# Altium footprint library Tranzistor.PcbLib: 240 footprints (part 7 of 15)
Each footprint in its own frame and in the unit in brackets; x right, y up, seen from the top. Pads: shape width x height; smd on the part's side, far side on the other; paste and mask are expansions set on the pad; w line width, h text height; cw(c..) or ccw(c..) is an arc to the next point about the centre after c.
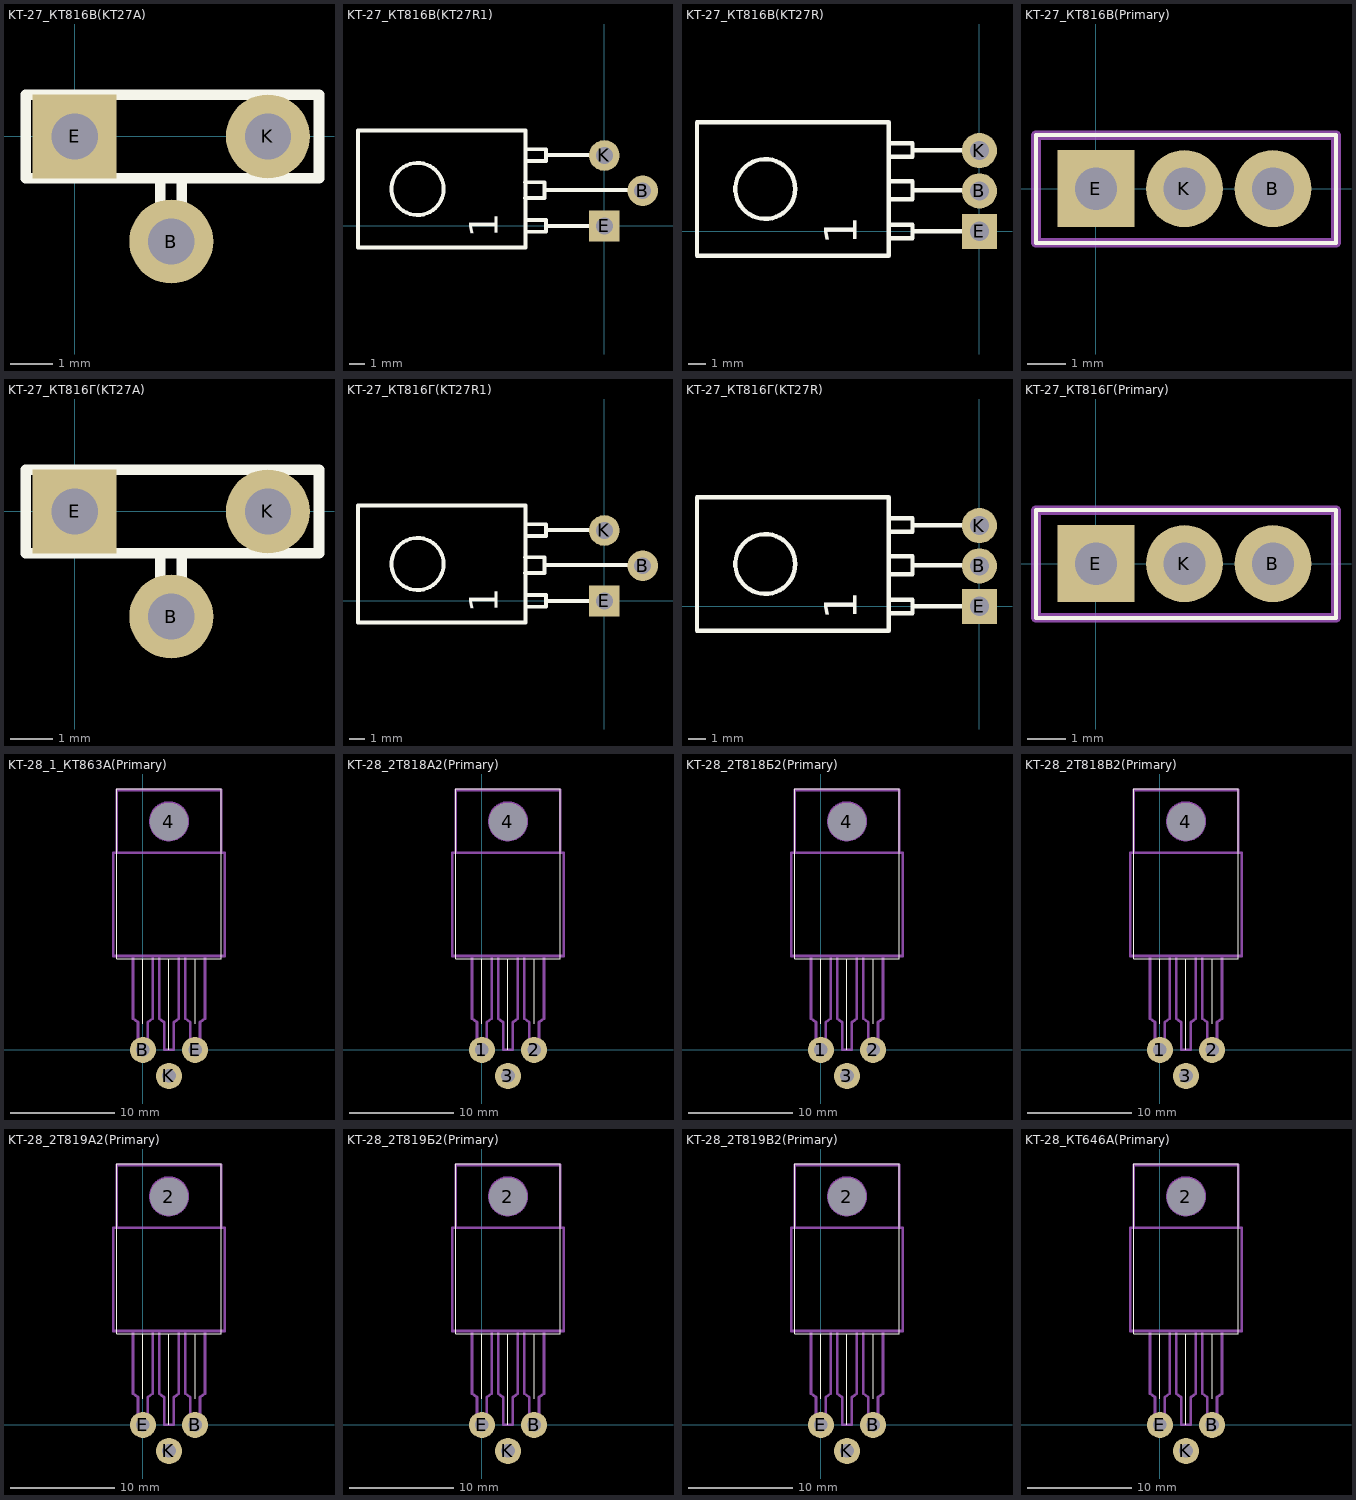
[diagram p6: the footprints below, top view; thin cyan lines are the x and y axes]

## KT-27_КТ816В(KT27A) [mm]
pads (3):
  round 2 hole 1.1: B(2.3,-2.5) K(4.6,0)
  rect 2x2 hole 1.1: E(0,0)
Top Overlay:
  lines w0.25: 2.043,-1.011 2.043,-2.56 2.551,-2.56 2.551,-1.011 ; -1.168,-0.991 5.817,-0.991 5.817,0.991 -1.168,0.991 -1.168,-0.991
  text "1" at -1.325,-1.053 h0.4

## KT-27_КТ816В(KT27R1) [mm]
pads (3):
  round 2 hole 1.1: B(2.5,2.3) K(0,4.6)
  rect 2x2 hole 1.1: E(0,0)
Top Overlay:
  circle w0.25: c-12.192,2.413 r1.702
  lines w0.25: -5.18,1.832 -3.91,1.832 -3.91,2.848 -5.18,2.848 ; -5.156,-0.381 -3.81,-0.381 -3.81,0.381 -5.156,0.381 ; -5.156,4.245 -3.81,4.245 -3.81,5.007 -5.156,5.007 ; -3.91,2.34 2.44,2.34 ; -3.81,0 -2.54,0 0,0 ; -3.81,4.626 -2.54,4.626 0,4.626 ; -16.078,-1.397 -5.156,-1.397 -5.156,6.223 -16.078,6.223 -16.078,-1.397
  text "1" at -6.35,-0.762 h3.17

## KT-27_КТ816В(KT27R) [mm]
pads (3):
  round 2 hole 1.1: B(0,2.3) K(0,4.6)
  rect 2x2 hole 1.1: E(0,0)
Top Overlay:
  circle w0.25: c-12.192,2.413 r1.702
  lines w0.25: -5.156,-0.381 -3.81,-0.381 -3.81,0.381 -5.156,0.381 ; -5.156,4.245 -3.81,4.245 -3.81,5.007 -5.156,5.007 ; -5.08,1.832 -3.81,1.832 -3.81,2.848 -5.08,2.848 ; -3.81,0 -2.54,0 0,0 ; -3.81,2.34 0,2.34 ; -3.81,4.626 -2.54,4.626 0,4.626 ; -16.078,-1.397 -5.156,-1.397 -5.156,6.223 -16.078,6.223 -16.078,-1.397
  text "1" at -6.35,-0.762 h3.17

## KT-27_КТ816В(Primary) [mm]
pads (3):
  round 2 hole 1.1: B(4.6,0) K(2.3,0)
  rect 2x2 hole 1.1: E(0,0)
Top Overlay:
  lines w0.1: -1.56,-1.41 6.24,-1.41 6.24,1.39 -1.56,1.39 -1.56,-1.41
Mechanical 1:
  lines w0.25: -1.56,-1.41 6.24,-1.41 6.24,1.39 -1.56,1.39 -1.56,-1.41

## KT-27_КТ816Г(KT27A) [mm]
pads (3):
  round 2 hole 1.1: B(2.3,-2.5) K(4.6,0)
  rect 2x2 hole 1.1: E(0,0)
Top Overlay:
  lines w0.25: 2.043,-1.011 2.043,-2.56 2.551,-2.56 2.551,-1.011 ; -1.168,-0.991 5.817,-0.991 5.817,0.991 -1.168,0.991 -1.168,-0.991
  text "1" at -1.325,-1.053 h0.4

## KT-27_КТ816Г(KT27R1) [mm]
pads (3):
  round 2 hole 1.1: B(2.5,2.3) K(0,4.6)
  rect 2x2 hole 1.1: E(0,0)
Top Overlay:
  circle w0.25: c-12.192,2.413 r1.702
  lines w0.25: -5.18,1.832 -3.91,1.832 -3.91,2.848 -5.18,2.848 ; -5.156,-0.381 -3.81,-0.381 -3.81,0.381 -5.156,0.381 ; -5.156,4.245 -3.81,4.245 -3.81,5.007 -5.156,5.007 ; -3.91,2.34 2.44,2.34 ; -3.81,0 -2.54,0 0,0 ; -3.81,4.626 -2.54,4.626 0,4.626 ; -16.078,-1.397 -5.156,-1.397 -5.156,6.223 -16.078,6.223 -16.078,-1.397
  text "1" at -6.35,-0.762 h3.17

## KT-27_КТ816Г(KT27R) [mm]
pads (3):
  round 2 hole 1.1: B(0,2.3) K(0,4.6)
  rect 2x2 hole 1.1: E(0,0)
Top Overlay:
  circle w0.25: c-12.192,2.413 r1.702
  lines w0.25: -5.156,-0.381 -3.81,-0.381 -3.81,0.381 -5.156,0.381 ; -5.156,4.245 -3.81,4.245 -3.81,5.007 -5.156,5.007 ; -5.08,1.832 -3.81,1.832 -3.81,2.848 -5.08,2.848 ; -3.81,0 -2.54,0 0,0 ; -3.81,2.34 0,2.34 ; -3.81,4.626 -2.54,4.626 0,4.626 ; -16.078,-1.397 -5.156,-1.397 -5.156,6.223 -16.078,6.223 -16.078,-1.397
  text "1" at -6.35,-0.762 h3.17

## KT-27_КТ816Г(Primary) [mm]
pads (3):
  round 2 hole 1.1: B(4.6,0) K(2.3,0)
  rect 2x2 hole 1.1: E(0,0)
Top Overlay:
  lines w0.1: -1.56,-1.41 6.24,-1.41 6.24,1.39 -1.56,1.39 -1.56,-1.41
Mechanical 1:
  lines w0.25: -1.56,-1.41 6.24,-1.41 6.24,1.39 -1.56,1.39 -1.56,-1.41

## KT-28_1_КТ863А(Primary) [mm]
pads (4):
  round 3.6 hole 3.6 unplated: 4(2.5,21.875)
  round 2.5 hole 1.3: B(0,0) E(5,0) K(2.5,-2.5)
Top Overlay:
  lines w0.1: 0,2.5 0,8.75 ; 2.5,0 2.5,8.75 ; 5,2.5 5,8.75 ; -2.5,8.75 7.5,8.75 7.5,25 -2.5,25 -2.5,8.75
Mechanical 1:
  circle w0.25: c2.5,21.9 r1.8
  lines w0.25: -0.95,9 -0.95,3 -0.47,2.651 -0.47,0 0,0 0.47,0 0.47,2.651 0.95,3 0.95,9 ; 1.55,9 1.55,3 2.03,2.651 2.03,0 2.5,0 2.97,0 2.97,2.651 3.45,3 3.45,9 ; 4.05,9 4.05,3 4.53,2.651 4.53,0 5,0 5.47,0 5.47,2.651 5.95,3 5.95,9 ; -2.5,18.9 7.5,18.9 ; -2.5,18.9 -2.5,24.9 2.5,24.9 7.5,24.9 7.5,18.9 ; -2.5,18.9 -2.85,18.9 -2.85,9 2.5,9 7.85,9 7.85,18.9 7.5,18.9
  text "К" at 2.25,9.25 h1.5
  text "Э" at 4.75,9.25 h1.5
  text "Б" at -0.5,9.25 h1.5

## KT-28_2Т818А2(Primary) [mm]
pads (4):
  round 2.5 hole 1.3: 1(0,0) 2(5,0) 3(2.5,-2.5)
  round 3.6 hole 3.6 unplated: 4(2.5,21.875)
Top Overlay:
  lines w0.1: 0,2.5 0,8.75 ; 2.5,0 2.5,8.75 ; 5,2.5 5,8.75 ; -2.5,8.75 7.5,8.75 7.5,25 -2.5,25 -2.5,8.75
Mechanical 1:
  circle w0.25: c2.5,21.9 r1.8
  lines w0.25: -0.95,9 -0.95,3 -0.47,2.651 -0.47,0 0,0 0.47,0 0.47,2.651 0.95,3 0.95,9 ; 1.55,9 1.55,3 2.03,2.651 2.03,0 2.5,0 2.97,0 2.97,2.651 3.45,3 3.45,9 ; 4.05,9 4.05,3 4.53,2.651 4.53,0 5,0 5.47,0 5.47,2.651 5.95,3 5.95,9 ; -2.5,18.9 7.5,18.9 ; -2.5,18.9 -2.5,24.9 2.5,24.9 7.5,24.9 7.5,18.9 ; -2.5,18.9 -2.85,18.9 -2.85,9 2.5,9 7.85,9 7.85,18.9 7.5,18.9
  text "К" at 2.25,9.25 h1.5
  text "Б" at 4.75,9.25 h1.5
  text "Э" at -0.5,9.25 h1.5

## KT-28_2Т818Б2(Primary) [mm]
pads (4):
  round 2.5 hole 1.3: 1(0,0) 2(5,0) 3(2.5,-2.5)
  round 3.6 hole 3.6 unplated: 4(2.5,21.875)
Top Overlay:
  lines w0.1: 0,2.5 0,8.75 ; 2.5,0 2.5,8.75 ; 5,2.5 5,8.75 ; -2.5,8.75 7.5,8.75 7.5,25 -2.5,25 -2.5,8.75
Mechanical 1:
  circle w0.25: c2.5,21.9 r1.8
  lines w0.25: -0.95,9 -0.95,3 -0.47,2.651 -0.47,0 0,0 0.47,0 0.47,2.651 0.95,3 0.95,9 ; 1.55,9 1.55,3 2.03,2.651 2.03,0 2.5,0 2.97,0 2.97,2.651 3.45,3 3.45,9 ; 4.05,9 4.05,3 4.53,2.651 4.53,0 5,0 5.47,0 5.47,2.651 5.95,3 5.95,9 ; -2.5,18.9 7.5,18.9 ; -2.5,18.9 -2.5,24.9 2.5,24.9 7.5,24.9 7.5,18.9 ; -2.5,18.9 -2.85,18.9 -2.85,9 2.5,9 7.85,9 7.85,18.9 7.5,18.9
  text "К" at 2.25,9.25 h1.5
  text "Б" at 4.75,9.25 h1.5
  text "Э" at -0.5,9.25 h1.5

## KT-28_2Т818В2(Primary) [mm]
pads (4):
  round 2.5 hole 1.3: 1(0,0) 2(5,0) 3(2.5,-2.5)
  round 3.6 hole 3.6 unplated: 4(2.5,21.875)
Top Overlay:
  lines w0.1: 0,2.5 0,8.75 ; 2.5,0 2.5,8.75 ; 5,2.5 5,8.75 ; -2.5,8.75 7.5,8.75 7.5,25 -2.5,25 -2.5,8.75
Mechanical 1:
  circle w0.25: c2.5,21.9 r1.8
  lines w0.25: -0.95,9 -0.95,3 -0.47,2.651 -0.47,0 0,0 0.47,0 0.47,2.651 0.95,3 0.95,9 ; 1.55,9 1.55,3 2.03,2.651 2.03,0 2.5,0 2.97,0 2.97,2.651 3.45,3 3.45,9 ; 4.05,9 4.05,3 4.53,2.651 4.53,0 5,0 5.47,0 5.47,2.651 5.95,3 5.95,9 ; -2.5,18.9 7.5,18.9 ; -2.5,18.9 -2.5,24.9 2.5,24.9 7.5,24.9 7.5,18.9 ; -2.5,18.9 -2.85,18.9 -2.85,9 2.5,9 7.85,9 7.85,18.9 7.5,18.9
  text "К" at 2.25,9.25 h1.5
  text "Б" at 4.75,9.25 h1.5
  text "Э" at -0.5,9.25 h1.5

## KT-28_2Т819А2(Primary) [mm]
pads (4):
  round 3.6 hole 3.6 unplated: 2(2.5,21.875)
  round 2.5 hole 1.3: B(5,0) E(0,0) K(2.5,-2.5)
Top Overlay:
  lines w0.1: 0,2.5 0,8.75 ; 2.5,0 2.5,8.75 ; 5,2.5 5,8.75 ; -2.5,8.75 7.5,8.75 7.5,25 -2.5,25 -2.5,8.75
Mechanical 1:
  circle w0.25: c2.5,21.9 r1.8
  lines w0.25: -0.95,9 -0.95,3 -0.47,2.651 -0.47,0 0,0 0.47,0 0.47,2.651 0.95,3 0.95,9 ; 1.55,9 1.55,3 2.03,2.651 2.03,0 2.5,0 2.97,0 2.97,2.651 3.45,3 3.45,9 ; 4.05,9 4.05,3 4.53,2.651 4.53,0 5,0 5.47,0 5.47,2.651 5.95,3 5.95,9 ; -2.5,18.9 7.5,18.9 ; -2.5,18.9 -2.5,24.9 2.5,24.9 7.5,24.9 7.5,18.9 ; -2.5,18.9 -2.85,18.9 -2.85,9 2.5,9 7.85,9 7.85,18.9 7.5,18.9
  text "К" at 2.25,9.25 h1.5
  text "Б" at 4.75,9.25 h1.5
  text "Э" at -0.5,9.25 h1.5

## KT-28_2Т819Б2(Primary) [mm]
pads (4):
  round 3.6 hole 3.6 unplated: 2(2.5,21.875)
  round 2.5 hole 1.3: B(5,0) E(0,0) K(2.5,-2.5)
Top Overlay:
  lines w0.1: 0,2.5 0,8.75 ; 2.5,0 2.5,8.75 ; 5,2.5 5,8.75 ; -2.5,8.75 7.5,8.75 7.5,25 -2.5,25 -2.5,8.75
Mechanical 1:
  circle w0.25: c2.5,21.9 r1.8
  lines w0.25: -0.95,9 -0.95,3 -0.47,2.651 -0.47,0 0,0 0.47,0 0.47,2.651 0.95,3 0.95,9 ; 1.55,9 1.55,3 2.03,2.651 2.03,0 2.5,0 2.97,0 2.97,2.651 3.45,3 3.45,9 ; 4.05,9 4.05,3 4.53,2.651 4.53,0 5,0 5.47,0 5.47,2.651 5.95,3 5.95,9 ; -2.5,18.9 7.5,18.9 ; -2.5,18.9 -2.5,24.9 2.5,24.9 7.5,24.9 7.5,18.9 ; -2.5,18.9 -2.85,18.9 -2.85,9 2.5,9 7.85,9 7.85,18.9 7.5,18.9
  text "К" at 2.25,9.25 h1.5
  text "Б" at 4.75,9.25 h1.5
  text "Э" at -0.5,9.25 h1.5

## KT-28_2Т819В2(Primary) [mm]
pads (4):
  round 3.6 hole 3.6 unplated: 2(2.5,21.875)
  round 2.5 hole 1.3: B(5,0) E(0,0) K(2.5,-2.5)
Top Overlay:
  lines w0.1: 0,2.5 0,8.75 ; 2.5,0 2.5,8.75 ; 5,2.5 5,8.75 ; -2.5,8.75 7.5,8.75 7.5,25 -2.5,25 -2.5,8.75
Mechanical 1:
  circle w0.25: c2.5,21.9 r1.8
  lines w0.25: -0.95,9 -0.95,3 -0.47,2.651 -0.47,0 0,0 0.47,0 0.47,2.651 0.95,3 0.95,9 ; 1.55,9 1.55,3 2.03,2.651 2.03,0 2.5,0 2.97,0 2.97,2.651 3.45,3 3.45,9 ; 4.05,9 4.05,3 4.53,2.651 4.53,0 5,0 5.47,0 5.47,2.651 5.95,3 5.95,9 ; -2.5,18.9 7.5,18.9 ; -2.5,18.9 -2.5,24.9 2.5,24.9 7.5,24.9 7.5,18.9 ; -2.5,18.9 -2.85,18.9 -2.85,9 2.5,9 7.85,9 7.85,18.9 7.5,18.9
  text "К" at 2.25,9.25 h1.5
  text "Б" at 4.75,9.25 h1.5
  text "Э" at -0.5,9.25 h1.5

## KT-28_КТ646А(Primary) [mm]
pads (4):
  round 3.6 hole 3.6 unplated: 2(2.5,21.875)
  round 2.5 hole 1.3: B(5,0) E(0,0) K(2.5,-2.5)
Top Overlay:
  lines w0.1: 0,2.5 0,8.75 ; 2.5,0 2.5,8.75 ; 5,2.5 5,8.75 ; -2.5,8.75 7.5,8.75 7.5,25 -2.5,25 -2.5,8.75
Mechanical 1:
  circle w0.25: c2.5,21.9 r1.8
  lines w0.25: -0.95,9 -0.95,3 -0.47,2.651 -0.47,0 0,0 0.47,0 0.47,2.651 0.95,3 0.95,9 ; 1.55,9 1.55,3 2.03,2.651 2.03,0 2.5,0 2.97,0 2.97,2.651 3.45,3 3.45,9 ; 4.05,9 4.05,3 4.53,2.651 4.53,0 5,0 5.47,0 5.47,2.651 5.95,3 5.95,9 ; -2.5,18.9 7.5,18.9 ; -2.5,18.9 -2.5,24.9 2.5,24.9 7.5,24.9 7.5,18.9 ; -2.5,18.9 -2.85,18.9 -2.85,9 2.5,9 7.85,9 7.85,18.9 7.5,18.9
  text "К" at 2.25,9.25 h1.5
  text "Б" at 4.75,9.25 h1.5
  text "Э" at -0.5,9.25 h1.5